# Altium schematic symbol library nRF24L01.SchLib: 1 symbol
Pins are listed as number, name and electrical type; pins without a type are passive.

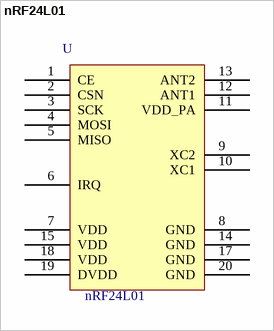
[diagram p0: symbol nRF24L01]

## nRF24L01
designator U  value nRF24L01  (hidden comment: *)
Farnell Code: 1346268
footprint QFN-20
pins: 1 CE, 2 CSN, 3 SCK, 4 MOSI, 5 MISO, 6 IRQ, 7 VDD, 8 GND, 9 XC2, 10 XC1, 11 VDD_PA, 12 ANT1, 13 ANT2, 14 GND, 15 VDD, 17 GND, 18 VDD, 19 DVDD, 20 GND